# EAGLE library part TPS56X21 (library hsk_2012)
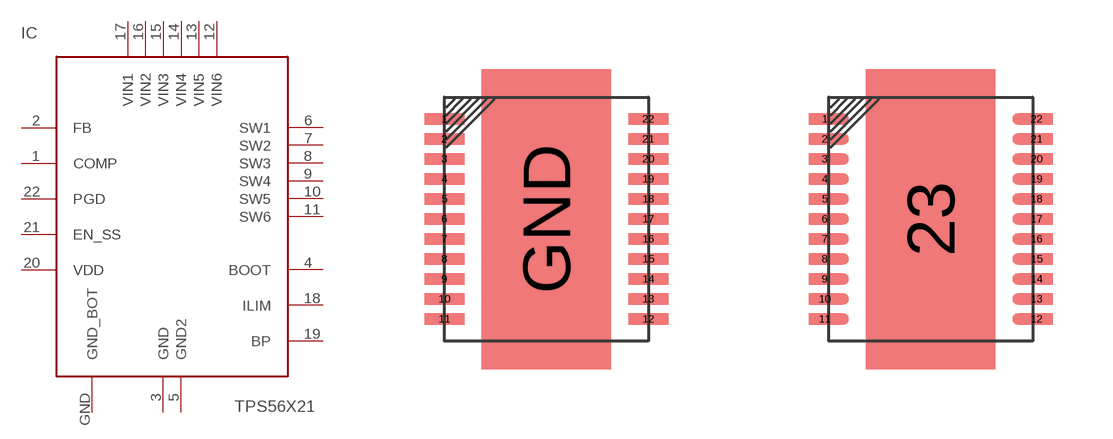
[diagram p8: symbol with the pads of PQFN-22-TEST; footprints PQFN-22-TEST, PQFN-22_SHAPPED]

Designator prefix IC

## TPS56X21_2  [PQFN-22-TEST]
1  COMP
2  FB
3  GND
4  BOOT
5  GND2
6  SW1
7  SW2
8  SW3
9  SW4
10  SW5
11  SW6
12  VIN6
13  VIN5
14  VIN4
15  VIN3
16  VIN2
17  VIN1
18  ILIM
19  BP
20  VDD
21  EN_SS
22  PGD
GND  GND_BOT

## TPS56X21_PAD  [PQFN-22_SHAPPED]
1  COMP
2  FB
3  GND
4  BOOT
5  GND2
6  SW1
7  SW2
8  SW3
9  SW4
10  SW5
11  SW6
12  VIN6
13  VIN5
14  VIN4
15  VIN3
16  VIN2
17  VIN1
18  ILIM
19  BP
20  VDD
21  EN_SS
22  PGD
23  GND_BOT

## TPS56X21_V6  [PQFN-22-V6]
Pads as for PQFN-22_SHAPPED

## TPS56X21_THERM  [PQFN-22-V6_THERMALS]
1  COMP
2  FB
3  GND
4  BOOT
5  GND2
6  SW1
7  SW2
8  SW3
9  SW4
10  SW5
11  SW6
12  VIN6
13  VIN5
14  VIN4
15  VIN3
16  VIN2
17  VIN1
18  ILIM
19  BP
20  VDD
21  EN_SS
22  PGD
23  GND_BOT
24  GND_BOT
25  GND_BOT
26  GND_BOT
27  GND_BOT
28  GND_BOT
29  GND_BOT
30  GND_BOT
31  GND_BOT
32  GND_BOT
33  GND_BOT
34  GND_BOT
35  GND_BOT
36  GND_BOT
37  GND_BOT
38  GND_BOT
39  GND_BOT
40  GND_BOT
41  GND_BOT
42  GND_BOT
43  GND_BOT
P$16  GND_BOT

## Footprint PQFN-22-TEST (pad centres in mm)
smd 1 x 0.28: 1 -2.55,2.5; 2 -2.55,2; 3 -2.55,1.5; 4 -2.55,1; 5 -2.55,0.5; 6 -2.55,0; 7 -2.55,-0.5; 8 -2.55,-1; 9 -2.55,-1.5; 10 -2.55,-2; 11 -2.55,-2.5; 12 2.55,-2.5; 13 2.55,-2; 14 2.55,-1.5; 15 2.55,-1; 16 2.55,-0.5; 17 2.55,0; 18 2.55,0.5; 19 2.55,1; 20 2.55,1.5; 21 2.55,2; 22 2.55,2.5
smd 3.24 x 7.5: GND 0,0

## Footprint PQFN-22_SHAPPED (pad centres in mm)
smd 0.8 x 0.28: 1 -2.65,2.5; 2 -2.65,2; 3 -2.65,1.5; 4 -2.65,1; 5 -2.65,0.5; 6 -2.65,0; 7 -2.65,-0.5; 8 -2.65,-1; 9 -2.65,-1.5; 10 -2.65,-2; 11 -2.65,-2.5; 12 2.65,-2.5; 13 2.65,-2; 14 2.65,-1.5; 15 2.65,-1; 16 2.65,-0.5; 17 2.65,0; 18 2.65,0.5; 19 2.65,1; 20 2.65,1.5; 21 2.65,2; 22 2.65,2.5
smd 3.24 x 7.5: 23 0,0

## Footprint PQFN-22-V6 (pad centres in mm)
smd 1 x 0.28: 1 -2.55,2.5; 2 -2.55,2; 3 -2.55,1.5; 4 -2.55,1; 5 -2.55,0.5; 6 -2.55,0; 7 -2.55,-0.5; 8 -2.55,-1; 9 -2.55,-1.5; 10 -2.55,-2; 11 -2.55,-2.5; 12 2.55,-2.5; 13 2.55,-2; 14 2.55,-1.5; 15 2.55,-1; 16 2.55,-0.5; 17 2.55,0; 18 2.55,0.5; 19 2.55,1; 20 2.55,1.5; 21 2.55,2; 22 2.55,2.5
smd 3.24 x 5.48: 23 0,0

## Footprint PQFN-22-V6_THERMALS (pad centres in mm)
smd 1 x 0.28: 1 -2.55,2.5; 2 -2.55,2; 3 -2.55,1.5; 4 -2.55,1; 5 -2.55,0.5; 6 -2.55,0; 7 -2.55,-0.5; 8 -2.55,-1; 9 -2.55,-1.5; 10 -2.55,-2; 11 -2.55,-2.5; 12 2.55,-2.5; 13 2.55,-2; 14 2.55,-1.5; 15 2.55,-1; 16 2.55,-0.5; 17 2.55,0; 18 2.55,0.5; 19 2.55,1; 20 2.55,1.5; 21 2.55,2; 22 2.55,2.5
smd 3.24 x 5.48: 23 0,0
drill 0.3 pad 0.406: 24 -0.75,2.25; 25 -0.75,1.5; 26 -0.75,0.75; 27 -0.75,0; 28 -0.75,-0.75; 29 -0.75,-2.25; 30 0,2.25; 31 0,1.5; 32 0,0.75; 33 0,0; 34 0,-0.75; 35 0,-1.5; 36 0,-2.25; 37 0.75,2.25; 38 0.75,1.5; 39 0.75,0.75; 40 0.75,0; 41 0.75,-0.75; 42 0.75,-1.5; 43 0.75,-2.25; P$16 -0.75,-1.5